# Altium schematic symbol library TPS51386RJNR.SchLib: 1 symbol
Pins are listed as number, name and electrical type; pins without a type are passive.

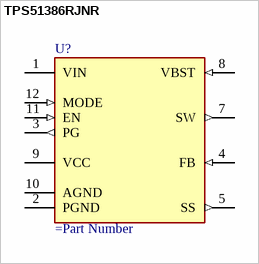
[diagram p0: symbol TPS51386RJNR]

## TPS51386RJNR
designator U?
Copyright: Copyright (C) 2026 Ultra Librarian. All rights reserved.
pins: 1 VIN (power), 2 PGND (power), 3 PG (out), 4 FB (in), 5 SS (out), 7 SW (out), 8 VBST (in), 9 VCC (power), 10 AGND (power), 11 EN (in), 12 MODE (in)